# EAGLE library part TPS61222 (library fmc)
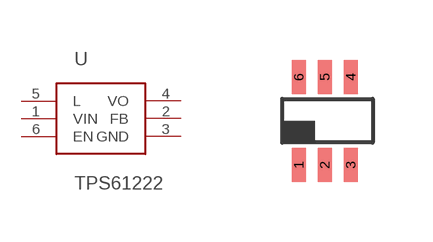
[diagram p5: symbol with the pads of DCK; footprint DCK]

Designator prefix -

## TPS61222  [DCK]
1  VIN
2  FB
3  GND
4  VO
5  L
6  EN

## Footprint DCK (pad centres in mm)
smd 0.35 x 0.85: 1 -0.65,-1.1; 2 0,-1.1; 3 0.65,-1.1; 4 0.65,1.1; 5 0,1.1; 6 -0.65,1.1